# Altium footprint library Footprint_Mounting.PcbLib: 1 footprints
Each footprint in its own frame and in the unit in brackets; x right, y up, seen from the top. Pads: shape width x height; smd on the part's side, far side on the other; paste and mask are expansions set on the pad; w line width, h text height; cw(c..) or ccw(c..) is an arc to the next point about the centre after c.
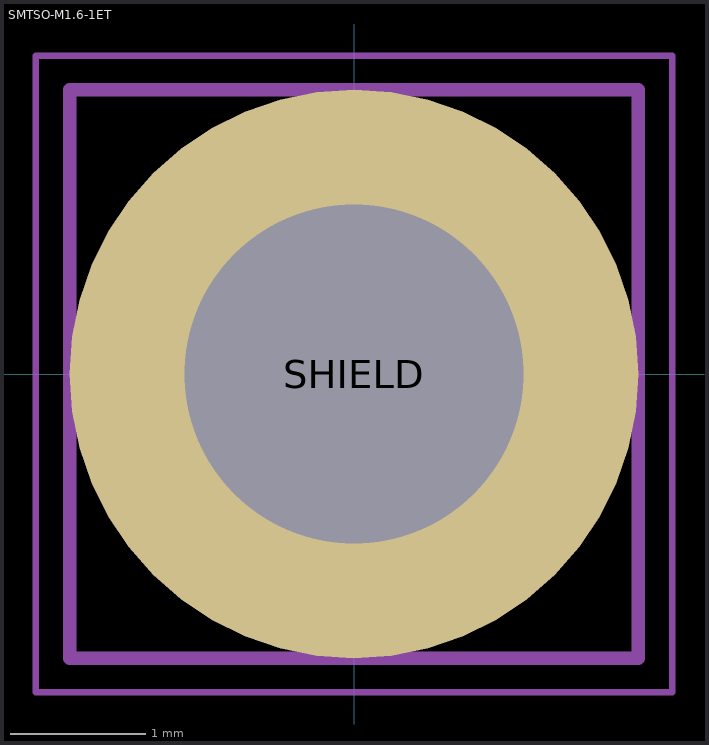
[diagram p0: the footprint, top view; thin cyan lines are the x and y axes]

## SMTSO-M1.6-1ET [mm] "M1.6 1mm Standoffs & Spacers SURFACE MOUNT STANDOFF"
pads (1):
  round 4.19 hole 2.5 mask+0.102: SHIELD(0,0)
Top Assembly:
  lines w0.1: -2.095,-2.095 -2.095,2.095 2.095,2.095 2.095,-2.095 -2.095,-2.095
  text ".Designator" at -7.747,-1.27 h1.02
Top Courtyard:
  lines w0.05: -2.345,-2.345 -2.345,2.345 2.345,2.345 2.345,-2.345 -2.345,-2.345
  lines w0.1: -0.5,0 0.5,0 ; 0,-0.5 0,0.5
3D body "SMTSO-M1.6-1ET-PennEngineering-3D-05-16-2024.stp": height 1, standoff -0.48, extent -1.83,-1.59 1.83,1.59